# Altium schematic symbol library murata.SchLib: 2 symbols
Pins are listed as number, name and electrical type; pins without a type are passive.

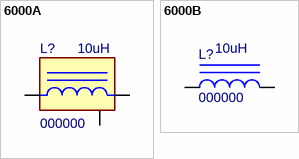
[diagram p0: symbols 6000A to 6000B]

## 6000A
designator L?, comment 000000  value 10uH
Magnetic-Core Inductor; MF: Murata; MF PN: 60A103C; ExtraInfo: *; PN: 000000; Digi-Key PN: *; Price: *
simulation model INDUCTOR (Inductor)
signal-integrity model Inductor Iron
footprint 6000A (High Current Inductor)
pins: 1, 2, 3 NC

## 6000B
designator L?, comment 000000  value 10uH
Magnetic-Core Inductor; MF: Murata; MF PN: 60B473C; ExtraInfo: *; PN: 000000; Digi-Key PN: 811-2459-ND; Price: 2.34080
simulation model INDUCTOR (Inductor)
signal-integrity model Inductor Iron
footprint 6000B (High Current Inductor)
pins: 1, 2